# Altium schematic symbol library CAP 5.1pF 630V.Schlib: 1 symbol
Pins are listed as number, name and electrical type; pins without a type are passive.

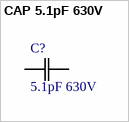
[diagram p0: symbol CAP 5.1pF 630V]

## CAP 5.1pF 630V
designator C?, comment 5.1pF 630V
CAP CER 5.1PF 630V C0G/NP0 0805
pins: 1 C1, 2 C2